# Altium footprint library ENG_CD_966140_F3 - duplicate.PcbLib: 1 footprints
Each footprint in its own frame and in the unit in brackets; x right, y up, seen from the top. Pads: shape width x height; smd on the part's side, far side on the other; paste and mask are expansions set on the pad; w line width, h text height; cw(c..) or ccw(c..) is an arc to the next point about the centre after c.
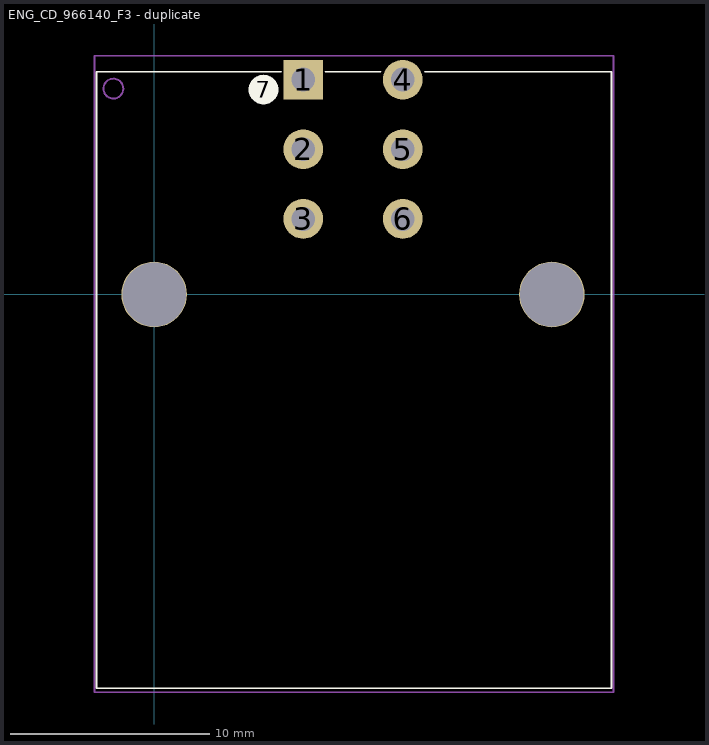
[diagram p0: the footprint, top view; thin cyan lines are the x and y axes]

## ENG_CD_966140_F3 - duplicate [mm]
pads (9):
  rect 2x2 hole 1.2: 1(7.5,10.8)
  round 2 hole 1.2: 2(7.5,7.3) 3(7.5,3.8) 4(12.5,10.8) 5(12.5,7.3) 6(12.5,3.8)
  round 1.5 on Top Overlay: 7(5.5,10.3)
  round 3.3 hole 3.2: ""(0,0) ""(20,0)
Top Overlay:
  lines w0.081: 6.4,11.2 -2.9,11.2 -2.9,10.5 -2.9,-19.8 23,-19.8 23,10.5 23,11.2 13.6,11.2 ; 8.6,11.2 11.4,11.2
Mechanical 13:
  circle w0.1: c-2.05,10.35 r0.5
Mechanical 15:
  lines w0.081: -3,-20 -3,11.5 -3,12 23.1,12 23.1,-20 23,-20 -3,-20
3D body "c-9-966140-5-f-3d.stp": height 25.95, standoff -2.75, extent -2.9,-19.75 22.95,11.15